# Altium footprint library Thermistors And Varistors.PcbLib: 16 footprints
Each footprint in its own frame and in the unit in brackets; x right, y up, seen from the top. Pads: shape width x height; smd on the part's side, far side on the other; paste and mask are expansions set on the pad; w line width, h text height; cw(c..) or ccw(c..) is an arc to the next point about the centre after c.
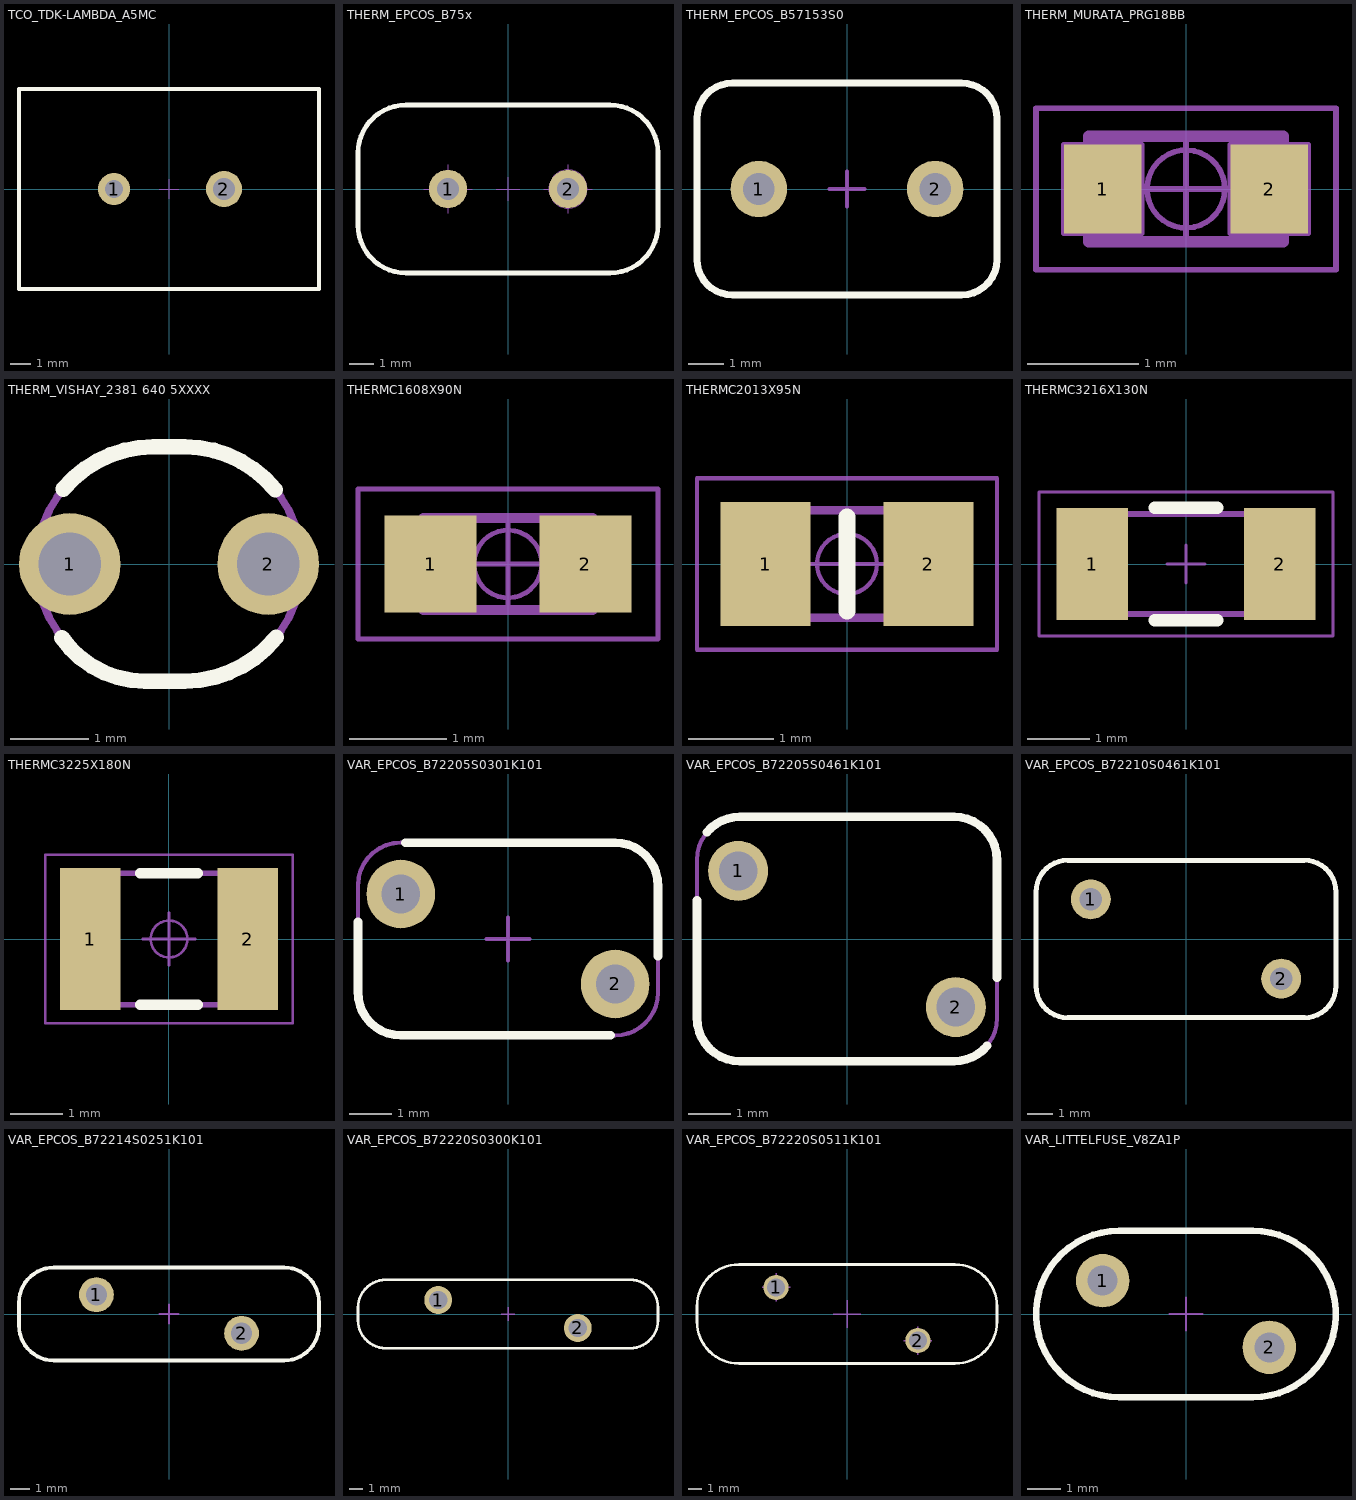
[diagram p0: the footprints below, top view; thin cyan lines are the x and y axes]

## TCO_TDK-LAMBDA_A5MC [mm] "Thermal Cutoff Resistor, Radial, Leads spacing 5.5mm - Body 15mm X 10mm X 26.5mm H"
height 26.5
pads (2):
  round 1.6 hole 0.9: 1(-2.75,0)
  round 1.8 hole 1.1: 2(2.75,0)
Top Overlay:
  lines w0.2: -7.5,-5 7.5,-5 7.5,5 -7.5,5 -7.5,-5
Mechanical 8:
  lines w0.05: -3.25,0 -2.75,0 ; -2.75,-0.5 -2.75,0 ; -2.75,0.5 -2.75,0 ; -2.25,0 -2.75,0 ; -0.5,0 0,0 ; 0,-0.5 0,0 ; 0,0.5 0,0 ; 0.5,0 0,0 ; 2.25,0 2.75,0 ; 2.75,-0.5 2.75,0 ; 2.75,0.5 2.75,0 ; 3.25,0 2.75,0
Mechanical 14:
  lines w0.1: -7.5,-5 7.5,-5 7.5,5 -7.5,5 -7.5,-5
3D body "TCO_TDK-LAMBDA_A5MC.stp": height 26.5, standoff -3.5, extent -7.5,-5 7.5,5

## THERM_EPCOS_B75x [mm] "PTC Thermistors, Body  D 12.5mm x W 7mm x H 16.5mm"
height 16.5
pads (2):
  round 1.6 hole 0.9: 1(-2.5,0) 2(2.5,0)
Top Overlay:
  lines w0.2: -6.25,-1.5 ccw(c-4.25,-1.5) -4.25,-3.5 4.25,-3.5 ccw(c4.25,-1.5) 6.25,-1.5 6.25,1.5 ccw(c4.25,1.5) 4.25,3.5 -4.25,3.5 ccw(c-4.25,1.5) -6.25,1.5 -6.25,-1.5
Mechanical 8:
  circle w0.05: c2.5,0 r0.8
  circle w0.05: c2.5,0 r0.45
  lines w0.05: -3.5,0 -2.5,0 ; -2.5,-1 -2.5,0 ; -2.5,1 -2.5,0 ; -1.5,0 -2.5,0 ; -0.5,0 0,0 ; 0,-0.5 0,0 ; 0,0.5 0,0 ; 0.5,0 0,0 ; 1.5,0 2.5,0 ; 2.5,-1 2.5,0 ; 2.5,1 2.5,0 ; 3.5,0 2.5,0
Mechanical 14:
  circle w0.1: c2.5,0 r0.5
  lines w0.1: -6.25,-1.5 ccw(c-4.25,-1.5) -4.25,-3.5 4.25,-3.5 ccw(c4.25,-1.5) 6.25,-1.5 6.25,1.5 ccw(c4.25,1.5) 4.25,3.5 -4.25,3.5 ccw(c-4.25,1.5) -6.25,1.5 -6.25,-1.5
3D body "THERM_EPCOS_B75x_3D.stp": height 16.49, standoff -4.36, extent -6.24,-3.497 6.241,3.498

## THERM_EPCOS_B57153S0 [mm] "NTC thermistors, Body  D 8.5mm x W 6mm x H 13mmxxx"
height 13
pads (2):
  round 1.6 hole 0.9: 1(-2.5,0) 2(2.5,0)
Top Overlay:
  lines w0.2: -4.25,-2 ccw(c-3.25,-2) -3.25,-3 3.25,-3 ccw(c3.25,-2) 4.25,-2 4.25,2 ccw(c3.25,2) 3.25,3 -3.25,3 ccw(c-3.25,2) -4.25,2 -4.25,-2
Mechanical 8:
  lines w0.1: -3,0 -2.5,0 ; -2.5,-0.5 -2.5,0 ; -2.5,0.5 -2.5,0 ; -2,0 -2.5,0 ; -0.5,0 0,0 ; 0,-0.5 0,0 ; 0,0.5 0,0 ; 0.5,0 0,0 ; 2,0 2.5,0 ; 2.5,-0.5 2.5,0 ; 2.5,0.5 2.5,0 ; 3,0 2.5,0
Mechanical 14:
  lines w0.1: -4.25,-2 ccw(c-3.25,-2) -3.25,-3 3.25,-3 ccw(c3.25,-2) 4.25,-2 4.25,2 ccw(c3.25,2) 3.25,3 -3.25,3 ccw(c-3.25,2) -4.25,2 -4.25,-2
3D body "THERM_EPCOS_B57153S0.stp": height 13, standoff -3.8, extent -4.25,-3 4.25,3

## THERM_MURATA_PRG18BB [mm] "PTC Thermistors, Chip; 1.75mm L X 0.95mm W X 0.95mm H, IPC Medium Density"
height 0.95
pads (2):
  rect 0.7x0.8 smd: 1(-0.75,0) 2(0.75,0)
Mechanical 8:
  lines w0.05: -0.5,0 0,0 ; 0,-0.5 0,0 ; 0,0.5 0,0 ; 0.5,0 0,0 ; -1.1,-0.4 -1.1,0.4 ; -1.1,-0.4 -0.75,0 -1.1,0.4 ; -1.1,-0.4 -0.4,-0.4 -0.4,0.4 -1.1,0.4 ; 1.1,-0.4 0.75,0 1.1,0.4 ; 1.1,-0.4 1.1,0.4 ; 1.1,-0.4 0.4,-0.4 0.4,0.4 1.1,0.4
Mechanical 14:
  lines w0.1: -0.875,-0.475 -0.875,0.475 0.875,0.475 0.875,-0.475 -0.875,-0.475
Mechanical 15:
  circle w0.05: c0,0 r0.35
  lines w0.05: -0.5,0 0.5,0 ; 0,-0.5 0,0.5 ; -1.35,-0.725 -1.35,0.725 1.35,0.725 1.35,-0.725 -1.35,-0.725
3D body "THERM_MURATA_PRG18BB.stp": height 0.95, standoff 0, extent -0.875,-0.475 0.875,0.475

## THERM_VISHAY_2381 640 5XXXX [mm] "RM_VISHAY_2381 640 5xxxx, Body 3.4x3mm"
height 9
pads (2):
  round 1.3 hole 0.8: 1(-1.27,0) 2(1.27,0)
Top Overlay:
  lines w0.2: -1.372,-0.942 ccw(c-0.308,-0.205) -0.308,-1.5 0.2,-1.5 ccw(c0.2,0) 1.371,-0.937 ; -1.352,0.96 cw(c-0.2,0) -0.2,1.5 0.2,1.5 cw(c0.2,0) 1.361,0.95
Mechanical 14:
  lines w0.1: 0.2,1.5 cw(c0.2,0) 0.2,-1.5 -0.2,-1.5 cw(c-0.2,0) -0.2,1.5 0.25,1.5
3D body "THERM_VISHAY_2381 640 5XXXX.stp": height 9, standoff -2.8, extent -1.7,-1.5 1.7,1.5

## THERMC1608X90N [mm] "PTC Thermistors, Chip; 1.6mm L X 0.8mm W X 0.9mm H, IPC Medium Density"
height 0.9
pads (2):
  rect 0.95x1 smd: 1(-0.8,0) 2(0.8,0)
Mechanical 14:
  lines w0.1: -0.875,-0.475 0.875,-0.475 0.875,0.475 -0.875,0.475 ; -0.875,-0.475 -0.875,0.475 ; -0.875,-0.475 -0.875,-0.475 ; -0.875,0.475 -0.875,0.475
Mechanical 15:
  circle w0.05: c0,0 r0.35
  lines w0.05: -0.5,0 0.5,0 ; 0,-0.5 0,0.5 ; -1.55,-0.775 1.55,-0.775 1.55,0.775 -1.55,0.775 -1.55,-0.775
3D body "THERMC1608X90N.stp": height 0.9, standoff 0, extent -0.875,-0.475 0.875,0.475

## THERMC2013X95N [mm] "PTC Thermistors, Chip; 2.0mm L X 1.25mm W X 0.95mm H, IPC Medium Density"
height 0.95
pads (2):
  rect 1.05x1.45 smd: 1(-0.95,0) 2(0.95,0)
Top Overlay:
  lines w0.2: 0,-0.55 0,0.55
Mechanical 14:
  lines w0.1: -1,-0.625 -1,0.625 1,0.625 1,-0.625 -1,-0.625
Mechanical 15:
  circle w0.05: c0,0 r0.35
  lines w0.05: -0.5,0 0.5,0 ; 0,-0.5 0,0.5 ; -1.75,-1 -1.75,1 1.75,1 1.75,-1 -1.75,-1
3D body "THERMC2013X95N.stp": height 0.95, standoff 0, extent -1.1,-0.7 1.1,0.7

## THERMC3216X130N [mm] "Chip Thermistor Body 3.2x1.6mm, IPC Medium Density"
height 1.3
pads (2):
  rect 1.15x1.8 smd: 1(-1.5,0) 2(1.5,0)
Top Overlay:
  lines w0.2: -0.5,-0.9 0.5,-0.9 ; -0.5,0.9 0.5,0.9
Mechanical 14:
  lines w0.1: -1.6,-0.8 1.6,-0.8 1.6,0.8 -1.6,0.8 -1.6,-0.8
Mechanical 15:
  lines w0.05: -0.3,0 0.3,0 ; 0,-0.3 0,0.3 ; -2.35,-1.15 2.35,-1.15 2.35,1.15 -2.35,1.15 -2.35,-1.15
3D body "THERMC3216X130N.stp": height 1.3, standoff 0, extent -1.7,-0.9 1.7,0.9

## THERMC3225X180N [mm] "PTC Thermistors, Chip; 3.20mm L X 2.50mm W X 1.80mm H, IPC Medium Density"
height 1.8
pads (2):
  rect 1.15x2.7 smd: 1(-1.5,0) 2(1.5,0)
Top Overlay:
  lines w0.2: -0.55,-1.25 0.55,-1.25 ; -0.55,1.25 0.55,1.25
Mechanical 14:
  lines w0.1: -1.6,-1.25 -1.6,1.25 1.6,1.25 1.6,-1.25 -1.6,-1.25
Mechanical 15:
  circle w0.05: c0,0 r0.35
  lines w0.05: -0.5,0 0.5,0 ; 0,-0.5 0,0.5 ; -2.35,-1.6 -2.35,1.6 2.35,1.6 2.35,-1.6 -2.35,-1.6
3D body "THERM_EPCOS_B59607A0120A062.stp": height 1.8, standoff 0, extent -1.7,-1.35 1.7,1.35

## VAR_EPCOS_B72205S0301K101 [mm] "EPCOS S05K300 Metal Oxyde Varistor, Body 7x4.5mm"
height 8.5
pads (2):
  round 1.6 hole 0.9: 1(-2.5,1.05) 2(2.5,-1.05)
Top Overlay:
  lines w0.2: -3.5,0.4 -3.5,-1.25 ccw(c-2.5,-1.25) -2.5,-2.25 2.4,-2.25 ; -2.4,2.25 2.5,2.25 cw(c2.5,1.25) 3.5,1.25 3.5,-0.4
Mechanical 8:
  lines w0.1: -3,1.05 -2.5,1.05 ; -2.5,0.55 -2.5,1.05 ; -2.5,1.55 -2.5,1.05 ; -2,1.05 -2.5,1.05 ; -0.5,0 0,0 ; 0,-0.5 0,0 ; 0,0.5 0,0 ; 0.5,0 0,0 ; 2,-1.05 2.5,-1.05 ; 2.5,-1.55 2.5,-1.05 ; 2.5,-0.55 2.5,-1.05 ; 3,-1.05 2.5,-1.05
Mechanical 14:
  lines w0.1: -3.5,-1.25 ccw(c-2.5,-1.25) -2.5,-2.25 2.5,-2.25 ccw(c2.5,-1.25) 3.5,-1.25 3.5,1.25 ccw(c2.5,1.25) 2.5,2.25 -2.5,2.25 ccw(c-2.5,1.25) -3.5,1.25 -3.5,-1.25
3D body "VAR_EPCOS_B72205S0301K101.stp": height 8.5, standoff -3.6, extent -3.508,-2.258 3.492,2.242

## VAR_EPCOS_B72205S0461K101 [mm] "EPCOS S05K460 Metal Oxyde Varistor, Body 7x5.7mm"
height 9
pads (2):
  round 1.4 hole 0.9: 1(-2.54,1.587) 2(2.54,-1.587)
Top Overlay:
  lines w0.2: -3.5,0.9 -3.5,-1.85 ccw(c-2.5,-1.85) -2.5,-2.85 2.5,-2.85 ccw(c2.5,-1.85) 3.266,-2.493 ; -3.266,2.493 cw(c-2.5,1.85) -2.5,2.85 2.5,2.85 cw(c2.5,1.85) 3.5,1.85 3.5,-0.9
Mechanical 14:
  lines w0.1: -3.5,-1.85 ccw(c-2.5,-1.85) -2.5,-2.85 2.5,-2.85 ccw(c2.5,-1.85) 3.5,-1.85 3.5,1.85 ccw(c2.5,1.85) 2.5,2.85 -2.5,2.85 ccw(c-2.5,1.85) -3.5,1.85 -3.5,-1.85
3D body "VAR_EPCOS_B72205S0461K101.stp": height 9, standoff -3.6, extent -3.508,-2.858 3.492,2.842

## VAR_EPCOS_B72210S0461K101 [mm] "EPCOS S10K460 Metal Oxyde Varistor, Body 6.3X12mm"
height 15
pads (2):
  round 1.6 hole 0.9: 1(-3.81,1.587) 2(3.81,-1.587)
Top Overlay:
  lines w0.2: 4.73,-3.15 ccw(c4.73,-1.88) 6,-1.88 6,1.88 ccw(c4.73,1.88) 4.73,3.15 -4.73,3.15 ccw(c-4.73,1.88) -6,1.88 -6,-1.88 ccw(c-4.73,-1.88) -4.73,-3.15 4.75,-3.15
Mechanical 14:
  lines w0.1: -6,-1.88 ccw(c-4.73,-1.88) -4.73,-3.15 4.73,-3.15 ccw(c4.73,-1.88) 6,-1.88 6,1.88 ccw(c4.73,1.88) 4.73,3.15 -4.73,3.15 ccw(c-4.73,1.88) -6,1.88 -6,-1.88
3D body "VAR_EPCOS_B72210S0461K101.stp": height 15, standoff -3.6, extent -6,-3.15 6,3.15

## VAR_EPCOS_B72214S0251K101 [mm] "EPCOS B72214S0251K101 Metal Oxyde Varistor, 14mm Body Diameter"
height 18.5
pads (2):
  round 1.8 hole 1.1: 1(-3.75,1) 2(3.75,-1)
Top Overlay:
  lines w0.2: -7.75,-0.6 ccw(c-5.95,-0.6) -5.95,-2.4 5.95,-2.4 ccw(c5.95,-0.6) 7.75,-0.6 7.75,0.6 ccw(c5.95,0.6) 5.95,2.4 -5.95,2.4 ccw(c-5.95,0.6) -7.75,0.6 -7.75,-0.6
Mechanical 8:
  lines w0.1: -4.25,1 -3.75,1 ; -3.75,0.5 -3.75,1 ; -3.75,1.5 -3.75,1 ; -3.25,1 -3.75,1 ; -0.5,0 0,0 ; 0,-0.5 0,0 ; 0,0.5 0,0 ; 0.5,0 0,0 ; 3.25,-1 3.75,-1 ; 3.75,-1.5 3.75,-1 ; 3.75,-0.5 3.75,-1 ; 4.25,-1 3.75,-1
Mechanical 14:
  lines w0.1: -7.75,-0.6 ccw(c-5.95,-0.6) -5.95,-2.4 5.95,-2.4 ccw(c5.95,-0.6) 7.75,-0.6 7.75,0.6 ccw(c5.95,0.6) 5.95,2.4 -5.95,2.4 ccw(c-5.95,0.6) -7.75,0.6 -7.75,-0.6
3D body "VAR_EPCOS_B72214S0251K101.stp": height 18.5, standoff -3.6, extent -7.75,-2.4 7.75,2.4

## VAR_EPCOS_B72220S0300K101 [mm] "EPCOS B72220S0300K101 Metal Oxyde Varistor, Body 25.5x4.9mm"
height 25.5
pads (2):
  round 2 hole 1.3: 1(-5,1) 2(5,-1)
Top Overlay:
  lines w0.2: -10.75,-0.45 ccw(c-8.75,-0.45) -8.75,-2.45 8.75,-2.45 ccw(c8.75,-0.45) 10.75,-0.45 10.75,0.45 ccw(c8.75,0.45) 8.75,2.45 -8.75,2.45 ccw(c-8.75,0.45) -10.75,0.45 -10.75,-0.45
Mechanical 8:
  circle w0.1: c-5,1 r0.5
  circle w0.1: c5,-1 r0.5
  lines w0.1: -5.5,1 -5,1 ; -5,0.5 -5,1 ; -5,1.5 -5,1 ; -4.5,1 -5,1 ; -0.5,0 0,0 ; 0,-0.5 0,0 ; 0,0.5 0,0 ; 0.5,0 0,0 ; 4.5,-1 5,-1 ; 5,-1.5 5,-1 ; 5,-0.5 5,-1 ; 5.5,-1 5,-1
Mechanical 14:
  lines w0.1: -10.75,-0.45 ccw(c-8.75,-0.45) -8.75,-2.45 8.75,-2.45 ccw(c8.75,-0.45) 10.75,-0.45 10.75,0.45 ccw(c8.75,0.45) 8.75,2.45 -8.75,2.45 ccw(c-8.75,0.45) -10.75,0.45 -10.75,-0.45
3D body "VAR_EPCOS_B72220S0300K101.stp": height 25.5, standoff -3.5, extent -10.75,-2.45 10.75,2.45

## VAR_EPCOS_B72220S0511K101 [mm] "EPCOS B72220S0511K101 Metal Oxyde Varistor, Body 7.1X21.5mm"
height 26
pads (2):
  round 1.8 hole 1.3: 1(-5.08,1.905) 2(5.08,-1.905)
Top Overlay:
  lines w0.2: -10.75,-0.55 ccw(c-7.75,-0.55) -7.75,-3.55 7.75,-3.55 ccw(c7.75,-0.55) 10.75,-0.55 10.75,0.55 ccw(c7.75,0.55) 7.75,3.55 -7.75,3.55 ccw(c-7.75,0.55) -10.75,0.55 -10.75,-0.55
Mechanical 8:
  lines w0.1: -6.08,1.905 -5.08,1.905 ; -5.08,0.905 -5.08,1.905 ; -5.08,2.905 -5.08,1.905 ; -4.08,1.905 -5.08,1.905 ; -1,0 0,0 ; 0,-1 0,0 ; 0,1 0,0 ; 1,0 0,0 ; 4.08,-1.905 5.08,-1.905 ; 5.08,-2.905 5.08,-1.905 ; 5.08,-0.905 5.08,-1.905 ; 6.08,-1.905 5.08,-1.905
3D body "VAR_EPCOS_ B72220S0511K101.stp": height 26, standoff -2.1, extent -10.75,-3.55 10.75,3.55

## VAR_LITTELFUSE_V8ZA1P [mm] "Metal-Oxide Varistor, Body 9x5mm"
height 12
pads (2):
  round 1.6 hole 0.9: 1(-2.5,1) 2(2.5,-1)
Top Overlay:
  lines w0.2: -2,-2.5 cw(c-2,0) -2,2.5 2,2.5 cw(c2,0) 2,-2.5 -2,-2.5
Mechanical 8:
  lines w0.05: -3,1 -2.5,1 ; -2.5,0.5 -2.5,1 ; -2.5,1.5 -2.5,1 ; -2,1 -2.5,1 ; -0.5,0 0,0 ; 0,-0.5 0,0 ; 0,0.5 0,0 ; 0.5,0 0,0 ; 2,-1 2.5,-1 ; 2.5,-1.5 2.5,-1 ; 2.5,-0.5 2.5,-1 ; 3,-1 2.5,-1
Mechanical 14:
  lines w0.1: -2,-2.5 cw(c-2,0) -2,2.5 2,2.5 cw(c2,0) 2,-2.5 -2,-2.5
3D body "VAR_LITTELFUSE_V8ZA1P.stp": height 12, standoff -3.5, extent -4.5,-2.5 4.5,2.5